# EAGLE library part EXPANSION-PORT (library cartridge)
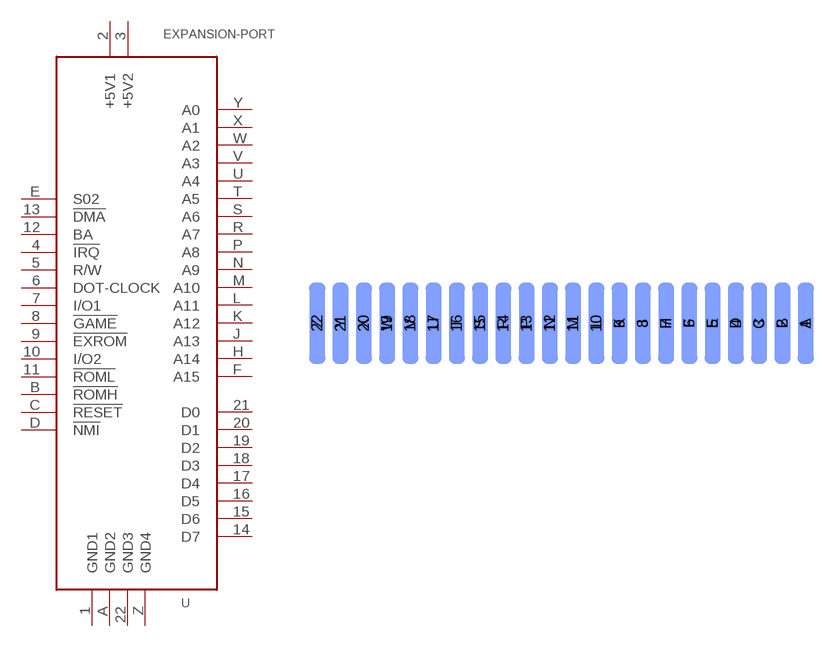
[diagram p0: symbol with the pads of EXPANSION-PORT; footprint EXPANSION-PORT]

Designator prefix -

## EXPANSION-PORT  [EXPANSION-PORT]
1  GND1
2  +5V1
3  +5V2
4  !IRQ
5  R/W
6  DOT-CLOCK
7  I/O1
8  !GAME
9  !EXROM
10  I/O2
11  !ROML
12  BA
13  !DMA
14  D7
15  D6
16  D5
17  D4
18  D3
19  D2
20  D1
21  D0
22  GND3
A  GND2
B  !ROMH
C  !RESET
D  !NMI
E  S02
F  A15
H  A14
J  A13
K  A12
L  A11
M  A10
N  A9
P  A8
R  A7
S  A6
T  A5
U  A4
V  A3
W  A2
X  A1
Y  A0
Z  GND4

## Footprint EXPANSION-PORT (pad centres in mm)
smd 1.778 x 8.89: 1 50.8,0; 2 48.26,0; 3 45.72,0; 4 43.18,0; 5 40.64,0; 6 38.1,0; 7 35.56,0; 8 33.02,0; 9 30.48,0; 10 27.94,0; 11 25.4,0; 12 22.86,0; 13 20.32,0; 14 17.78,0; 15 15.24,0; 16 12.7,0; 17 10.16,0; 18 7.62,0; 19 5.08,0; 20 2.54,0; 21 0,0; 22 -2.54,0
smd 1.778 x 8.89 bottom: A 50.8,0; B 48.26,0; C 45.72,0; D 43.18,0; E 40.64,0; F 38.1,0; H 35.56,0; J 33.02,0; K 30.48,0; L 27.94,0; M 25.4,0; N 22.86,0; P 20.32,0; R 17.78,0; S 15.24,0; T 12.7,0; U 10.16,0; V 7.62,0; W 5.08,0; X 2.54,0; Y 0,0; Z -2.54,0